# Altium footprint library Components - 23.09.25 - 02.54.PcbLib: 1 footprints
Each footprint in its own frame and in the unit in brackets; x right, y up, seen from the top. Pads: shape width x height; smd on the part's side, far side on the other; paste and mask are expansions set on the pad; w line width, h text height; cw(c..) or ccw(c..) is an arc to the next point about the centre after c.
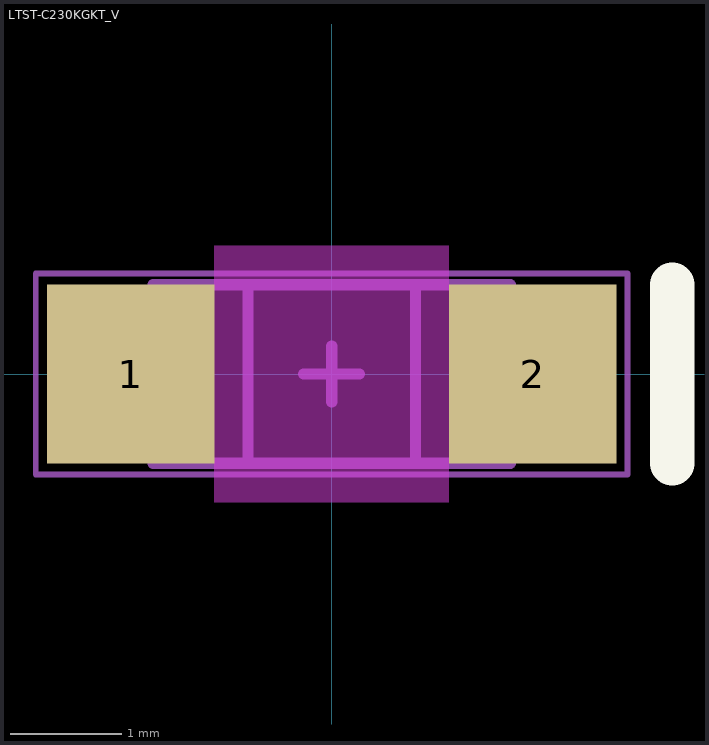
[diagram p0: the footprint, top view; thin cyan lines are the x and y axes]

## LTST-C230KGKT_V [mm] "SMD, 2-Leads, Body 3.2x1.6mm"
height 0.38
pads (2):
  rect 1.5x1.6 smd: 1(-1.8,0) 2(1.8,0)
Top Overlay:
  lines w0.4: 3.05,-0.8 3.05,0.8
Keep-Out Layer:
  board cut-out: -1.05,1.15 1.05,1.15 1.05,-1.15 -1.05,-1.15
Mechanical 13:
  lines w0.1: -0.75,-0.8 -0.75,0.8 ; 0.75,-0.8 0.75,0.8 ; -1.6,-0.8 1.6,-0.8 1.6,0.8 -1.6,0.8 -1.6,-0.8
Mechanical 15:
  lines w0.05: -2.65,-0.9 2.65,-0.9 2.65,0.9 -2.65,0.9 -2.65,-0.9
  lines w0.1: -0.25,0 0.25,0 ; 0,-0.25 0,0.25
3D body: height 0, standoff -0.82, extent -0.75,-0.8 0.75,0.8
3D body: height 0.38, standoff 0, extent -1.6,-0.8 1.6,0.8